# EAGLE library part MPU-6050 (library block_parts)
Invensense MPU series Accelerometer Gyroscope Magnetometer MPU-6050 QFN24-4x4 <http://www.invensense.com/mems/gyro/documents/PS-MPU-6000A-00v3.4.pdf>
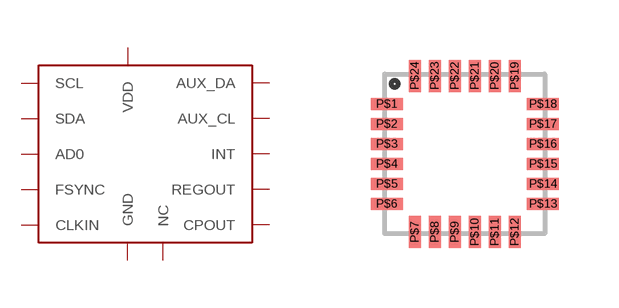
[diagram p2: symbol with the pads of QFN24-4X4-EXPOSED_PAD_KEEPOUT; footprint QFN24-4X4-EXPOSED_PAD_KEEPOUT]

Designator prefix -

## MPU-6050  [QFN24-4X4-EXPOSED_PAD_KEEPOUT]
P$1  CLKIN  in
P$2  NC
P$3  NC
P$4  NC
P$5  NC
P$6  AUX_DA
P$7  AUX_CL
P$8  VDD  pwr
P$9  AD0  in
P$10  REGOUT  pwr
P$11  FSYNC  in
P$12  INT  out
P$13  VDD  pwr
P$14  NC
P$15  NC
P$16  NC
P$17  NC
P$18  GND  pwr
P$20  CPOUT  pwr
P$23  SCL  in
P$24  SDA

## Footprint QFN24-4X4-EXPOSED_PAD_KEEPOUT (pad centres in mm)
smd 0.8 x 0.3: P$1 -1.955,1.25; P$2 -1.955,0.75; P$3 -1.955,0.25; P$4 -1.955,-0.25; P$5 -1.955,-0.75; P$6 -1.955,-1.25; P$13 1.955,-1.25; P$14 1.955,-0.75; P$15 1.955,-0.25; P$16 1.955,0.25; P$17 1.955,0.75; P$18 1.955,1.25
smd 0.3 x 0.8: P$7 -1.25,-1.955; P$8 -0.75,-1.955; P$9 -0.25,-1.955; P$10 0.25,-1.955; P$11 0.75,-1.955; P$12 1.25,-1.955; P$19 1.25,1.955; P$20 0.75,1.955; P$21 0.25,1.955; P$22 -0.25,1.955; P$23 -0.75,1.955; P$24 -1.25,1.955